# Altium footprint library Acoustic.PcbLib: 1 footprints
Each footprint in its own frame and in the unit in brackets; x right, y up, seen from the top. Pads: shape width x height; smd on the part's side, far side on the other; paste and mask are expansions set on the pad; w line width, h text height; cw(c..) or ccw(c..) is an arc to the next point about the centre after c.
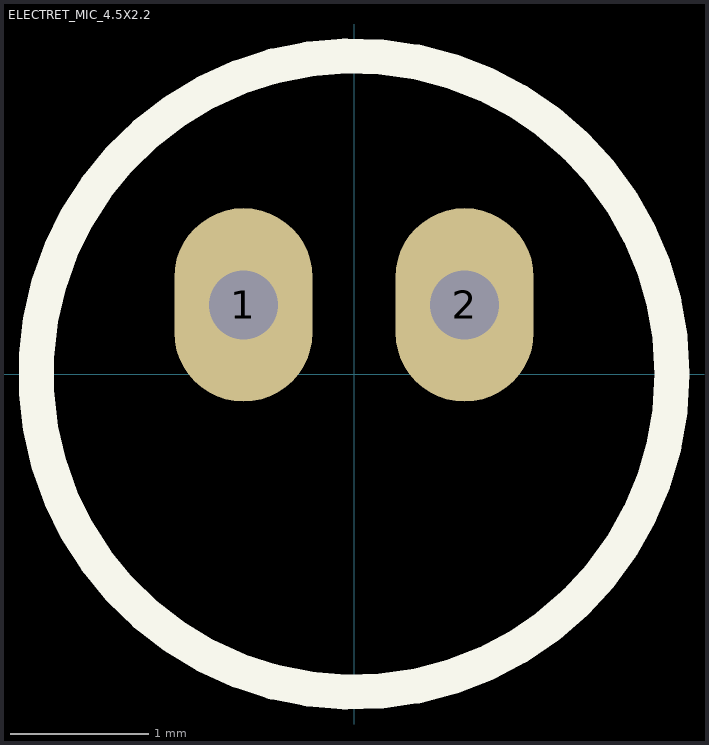
[diagram p0: the footprint, top view; thin cyan lines are the x and y axes]

## ELECTRET_MIC_4.5X2.2 [mm] "4.5x2.2 mm microphone"
pads (2):
  oval 1x1.4 hole 0.5: 1(-0.8,0.5) 2(0.8,0.5)
Top Overlay:
  circle w0.254: c0,0 r2.302